# EAGLE library part 1393240-1 (library Relays)
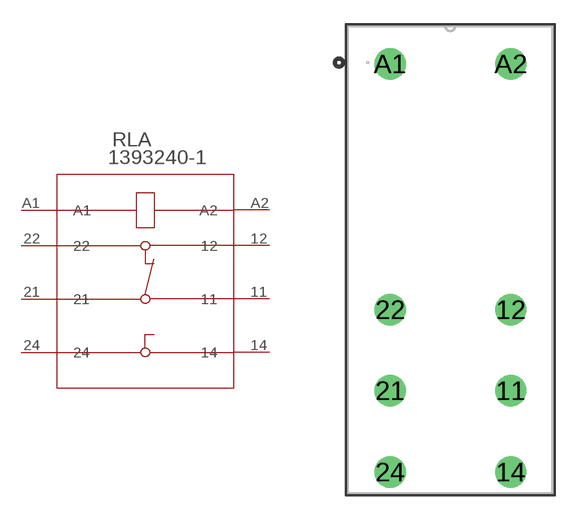
[diagram p81: symbol with the pads of RELAY8_RT1-16A5_1FC; footprint RELAY8_RT1-16A5_1FC]

Designator prefix RLA

## 1393240-1 (BUILT_BY: EMA_UL_Team; CATEGORY: Power Relays; CONTACT_ARRANGEMENT: 1 Form C (CO); COPYRIGHT: Copyright (C) 2016 Accelerated Designs. All rights reserved; DESCRIPTION: RT314048; MANUFACTURER_PART_NUMBER: 1393240-1; MAXIMUM_SWITCHING_CURRENT: -; MAXIMUM_SWITCHING_VOLTAGE: -; PART_STATUS: active; PRODUCT_TYPE: -; RELAY_TYPE: -; SERIES: SCHRACK Power PCB Relay RT1; TE_PART_NUMBER: RT314048 (1393240-1); VENDOR: TE Connectivity)  [RELAY8_RT1-16A5_1FC]
11  11  pas
12  12  pas
14  14  pas
21  21  pas
22  22  pas
24  24  pas
A1  A1  pas
A2  A2  pas

## Footprint RELAY8_RT1-16A5_1FC (pad centres in mm)
drill 1.295 pad 1.803: 11 0,4.013; 12 0,9.042; 14 0,-1.041; 21 -7.493,4.013; 22 -7.493,9.042; 24 -7.493,-1.041; A1 -7.493,24.308; A2 0,24.308